# EAGLE library part SSW-105-02-S-T (library con-samtec)
THROUGH-HOLE .025" SQ POST SOCKET Source: Samtec SSW.pdf
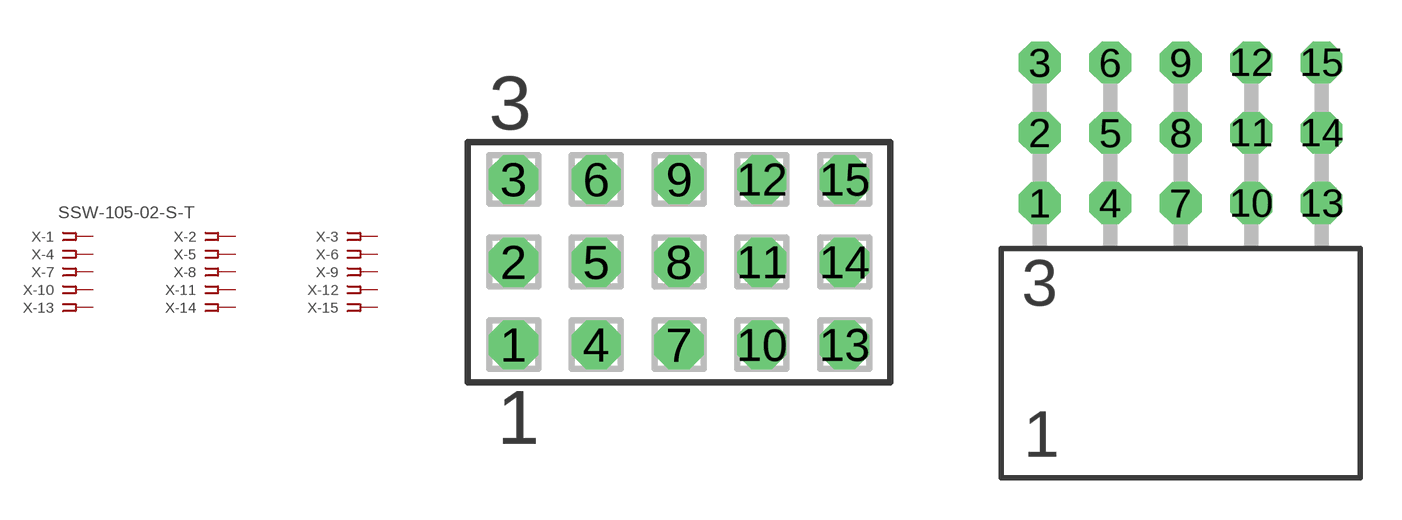
[diagram p51: symbol with the pads of SSW-105-02-S-T; footprints SSW-105-02-S-T, SSW-105-02-S-T-RA]

Designator prefix X; gates -1=FPINV -2=FPIN -3=FPIN -4=FPIN -5=FPIN -6=FPIN -7=FPIN -8=FPIN -9=FPIN -10=FPIN -11=FPIN -12=FPIN -13=FPIN -14=FPIN -15=FPIN

## SSW-105-02-S-T  [SSW-105-02-S-T]
1  -1:1  pas
2  -2:1  pas
3  -3:1  pas
4  -4:1  pas
5  -5:1  pas
6  -6:1  pas
7  -7:1  pas
8  -8:1  pas
9  -9:1  pas
10  -10:1  pas
11  -11:1  pas
12  -12:1  pas
13  -13:1  pas
14  -14:1  pas
15  -15:1  pas

## SSW-105-02-S-TRA  [SSW-105-02-S-T-RA]
Pads as for SSW-105-02-S-T

## Footprint SSW-105-02-S-T (pad centres in mm)
THROUGH-HOLE .025" SQ POST SOCKET Source: Samtec SSW.pdf
drill 1 pad 1.5 octagon: 1 -5.08,-2.54; 2 -5.08,0; 3 -5.08,2.54; 4 -2.54,-2.54; 5 -2.54,0; 6 -2.54,2.54; 7 0,-2.54; 8 0,0; 9 0,2.54; 10 2.54,-2.54; 11 2.54,0; 12 2.54,2.54; 13 5.08,-2.54; 14 5.08,0; 15 5.08,2.54

## Footprint SSW-105-02-S-T-RA (pad centres in mm)
THROUGH-HOLE .025" SQ POST SOCKET Source: Samtec SSW.pdf
drill 1 pad 1.5 octagon: 1 -5.08,1.524; 2 -5.08,4.064; 3 -5.08,6.604; 4 -2.54,1.524; 5 -2.54,4.064; 6 -2.54,6.604; 7 0,1.524; 8 0,4.064; 9 0,6.604; 10 2.54,1.524; 11 2.54,4.064; 12 2.54,6.604; 13 5.08,1.524; 14 5.08,4.064; 15 5.08,6.604